# Altium schematic symbol library 61303211821.SchLib: 1 symbol
Pins are listed as number, name and electrical type; pins without a type are passive.

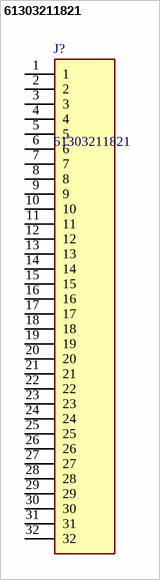
[diagram p0: symbol 61303211821]

## 61303211821
designator J?
Wurth Elektronik 6130 Series, Series Number 613032, 2.54mm Pitch 32 Way 1 Row Straight PCB Header, Solder Termination; Geometry.Height: 8.5mm; Mouser Part Number: 710-61303211821; Mouser Price/Stock: https://www.mouser.co.uk/ProductDetail/Wurth-Elektronik/61303211821?qs=ZtY9WdtwX55M%2FH%2FSrHZ9xA%3D%3D; Manufacturer_Name: Wurth Elektronik; Manufacturer_Part_Number: 61303211821; Datasheet Link: https://datasheet.datasheetarchive.com/originals/distributors/Datasheets_SAMA/72b7851c7992525883ac363e1253c3e3.pdf
footprint SHDR32W60P0X254_1X32_8178X250X850P
pins: 1, 2, 3, 4, 5, 6, 7, 8, 9, 10, 11, 12, 13, 14, 15, 16, 17, 18, 19, 20, 21, 22, 23, 24, 25, 26, 27, 28, 29, 30, 31, 32